# EAGLE library part HDSP-U* (library jt-led-avago)
Avago Ultra-mini 8mm 7-segment displays HDSP-UXYZ X - Colour: 1. AlGaAs Red 2. HER Red 3. Yellow 4. Orange 5. Green Y - Common Annode/Cathode: 0. Annode 1. Cathode Z - Surface colour: 1. Grey 3. Black
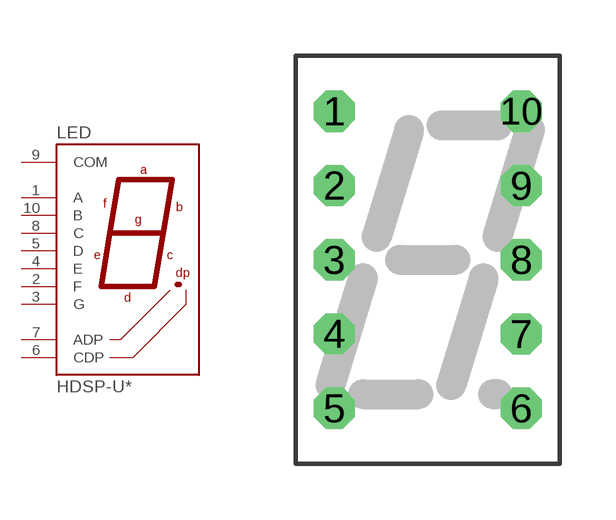
[diagram p0: symbol with the pads of HDSP-U2XX; footprint HDSP-U2XX]

Designator prefix LED

## HDSP-U101 (COLOUR: AlGaAs Red; COMMON: Annode; SURFACE: Grey), HDSP-U103 (COLOUR: AlGaAs Red; COMMON: Cathod; SURFACE: Grey), HDSP-U111 (COLOUR: AlGaAs Red; COMMON: Annode; SURFACE: Black), HDSP-U113 (COLOUR: AlGaAs Red; COMMON: Cathode; SURFACE: Black), HDSP-U201 (COLOUR: HER Red; COMMON: Annode; SURFACE: Grey), HDSP-U203 (COLOUR: HER Red; COMMON: Cathode; SURFACE: Grey), HDSP-U211 (COLOUR: HER Red; COMMON: Annode; SURFACE: Black), HDSP-U213 (COLOUR: HER Red; COMMON: Cathode; SURFACE: Black), HDSP-U301 (COLOUR: Yellow; COMMON: Annode; SURFACE: Grey), HDSP-U303 (COLOUR: Yellow; COMMON: Cathode; SURFACE: Grey), HDSP-U311 (COLOUR: Yellow; COMMON: Annode; SURFACE: Black), HDSP-U313 (COLOUR: Yellow; COMMON: Cathode; SURFACE: Black), HDSP-U401 (COLOUR: Orange; COMMON: Annode; SURFACE: Grey), HDSP-U403 (COLOUR: Orange; COMMON: Cathode; SURFACE: Grey), HDSP-U411 (COLOUR: Orange; COMMON: Annode; SURFACE: Black), HDSP-U413 (COLOUR: Orange; COMMON: Cathode; SURFACE: Black), HDSP-U501 (COLOUR: Green; COMMON: Annode; SURFACE: Grey), HDSP-U503 (COLOUR: Green; COMMON: Cathode; SURFACE: Grey), HDSP-U511 (COLOUR: Green; COMMON: Annode; SURFACE: Black), HDSP-U513 (COLOUR: Green; COMMON: Cathode; SURFACE: Black)  [HDSP-U2XX]
1  A
2  F
3  G
4  E
5  D
6  CDP
7  ADP
8  C
9  COM
10  B

## Footprint HDSP-U2XX (pad centres in mm)
drill 0.6 octagon: 1 -2.515,4; 2 -2.515,2; 3 -2.515,0; 4 -2.515,-2; 5 -2.515,-4; 6 2.515,-4; 7 2.515,-2; 8 2.515,0; 9 2.515,2; 10 2.515,4